# Altium schematic symbol library core.SchLib: 26 symbols
Pins are listed as number, name and electrical type; pins without a type are passive.

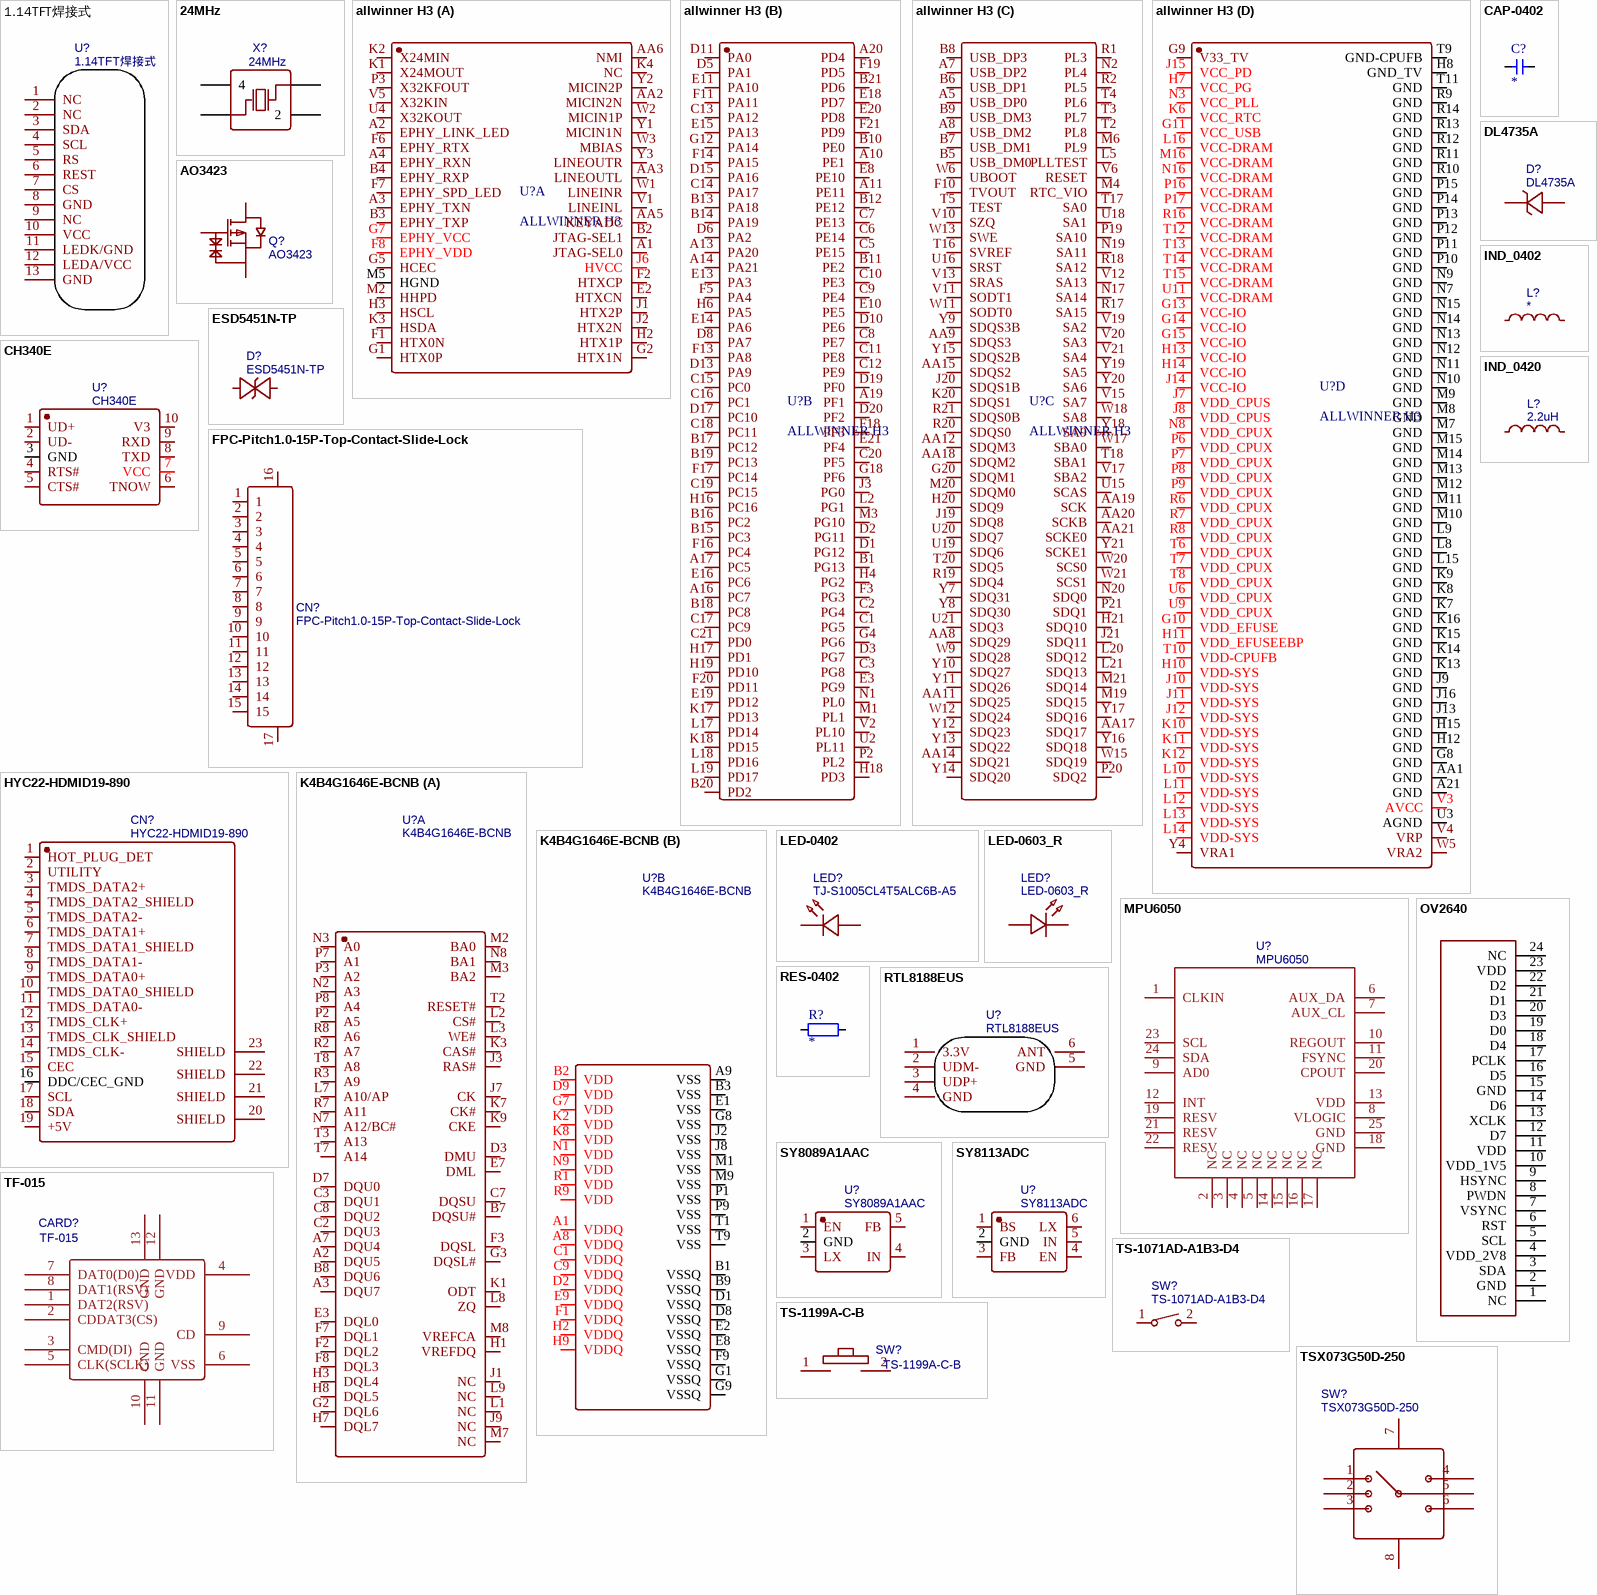
[diagram p0: symbols 1.14TFT焊接式 to TSX073G50D-250]

## 1.14TFT焊接式
designator U?
BOM_Manufacturer: 中景园; BOM_Manufacturer Part: 1.14寸LCD; Contributor: lanlanzhilian; BOM_Supplier: LCSC; BOM_Supplier Part: 1.14寸LCD; link: https://item.taobao.com/item.htm?spm=a1z09.2.0.0.71822e8drxlmEN&id=586638527978&_u=v83q7ore291; spicePre: U; spiceSymbolName: 1.14TFT焊接式
footprint 1.14TFT焊接式B
pins: 1 NC, 2 NC, 3 SDA, 4 SCL, 5 RS, 6 REST, 7 CS, 8 GND, 9 NC, 10 VCC, 11 LEDK/GND, 12 LEDA/VCC, 13 GND

## 24MHz
designator X?
BOM_Manufacturer: KDS; BOM_Manufacturer Part: DSX321G 24MHz; nameAlias: Frequency; Contributor: LCSC; BOM_Supplier: LCSC; BOM_Supplier Part: C93235; BOM_JLCPCB Part Class: Extended Part; spicePre: X; spiceSymbolName: DSX321G 24MHz
footprint OSC-SMD_4P-L3.2-W2.5-BL
pins: 1 OSC1, 2, 3 OSC2, 4

## allwinner H3
designator U?, comment ALLWINNER H3
footprint BGA-347_L14.0-W14.0-R21-C21-P0.65-TL
part A pins: A1 JTAG-SEL0, A2 EPHY_LINK_LED, A3 EPHY_TXN, A4 EPHY_RXN, AA2 MICIN2N, AA3 LINEOUTL, AA5 KEYADC, AA6 NMI, B2 JTAG-SEL1, B3 EPHY_TXP, B4 EPHY_RXP, E2 HTXCN, F1 HTX0N, F2 HTXCP, F6 EPHY_RTX, F7 EPHY_SPD_LED, F8 EPHY_VDD, G1 HTX0P, G2 HTX1N, G5 HCEC, G7 EPHY_VCC, H2 HTX1P, H3 HSCL, J1 HTX2P, J2 HTX2N, J6 HVCC, K1 X24MOUT, K2 X24MIN, K3 HSDA, K4 NC, M2 HHPD, M5 HGND, P3 X32KFOUT, U4 X32KOUT, V1 LINEINL, V5 X32KIN, W1 LINEINR, W2 MICIN1P, W3 MBIAS, Y1 MICIN1N, Y2 MICIN2P, Y3 LINEOUTR
part B pins: A10 PE1, A11 PE11, A13 PA20, A14 PA21, A16 PC7, A17 PC5, A19 PF1, A20 PD4, B1 PG13, B10 PE0, B11 PE2, B12 PE12, B13 PA18, B14 PA19, B15 PC3, B16 PC2, B17 PC12, B18 PC8, B19 PC13, B20 PD2, B21 PD6, C1 PG5, C2 PG4, C3 PG8, C5 PE15, C6 PE14, C7 PE13, C8 PE7, C9 PE4, C10 PE3, C11 PE8, C12 PE9, C13 PA12, C14 PA17, C15 PC0, C16 PC1, C17 PC9, C18 PC11, C19 PC15, C20 PF5, C21 PD0, D1 PG12, D2 PG11, D3 PG7, D5 PA1, D6 PA2, D8 PA7, D10 PE6, D11 PA0, D13 PA9, D15 PA16, D17 PC10, D19 PF0, D20 PF2, E3 PG9, E8 PE10, E10 PE5, E11 PA10, E13 PA3, E14 PA6, E15 PA13, E16 PC6, E18 PD7, E19 PD12, E20 PD8, E21 PF4, F3 PG3, F5 PA4, F11 PA11, F13 PA8, F14 PA15, F16 PC4, F17 PC14, F18 PF3, F19 PD5, F20 PD11, F21 PD9, G4 PG6, G12 PA14, G18 PF6, H4 PG2, H6 PA5, H16 PC16, H17 PD1, H18 PD3, H19 PD10, J3 PG0, K17 PD13, K18 PD15, L2 PG1, L17 PD14, L18 PD16, L19 PD17, M1 PL1, M3 PG10, N1 PL0, P2 PL2, U2 PL11, V2 PL10
part C pins: A5 USB_DP0, A7 USB_DP2, A8 USB_DM2, AA8 SDQ29, AA9 SDQS3, AA11 SDQ25, AA12 SDQM3, AA14 SDQ21, AA15 SDQS2, AA17 SDQ17, AA18 SDQM2, AA19 SCK, AA20 SCKB, AA21 SCKE0, B5 USB_DM0, B6 USB_DP1, B7 USB_DM1, B8 USB_DP3, B9 USB_DM3, F10 TVOUT, G20 SDQM1, H20 SDQ9, H21 SDQ10, J19 SDQ8, J20 SDQS1B, J21 SDQ11, K20 SDQS1, L5 PLLTEST, L20 SDQ12, L21 SDQ13, M4 RTC_VIO, M6 PL9, M19 SDQ15, M20 SDQM0, M21 SDQ14, N2 PL4, N17 SA14, N19 SA11, N20 SDQ0, P19 SA10, P20 SDQ2, P21 SDQ1, R1 PL3, R2 PL5, R17 SA15, R18 SA12, R19 SDQ4, R20 SDQS0, R21 SDQS0B, T2 PL8, T3 PL7, T4 PL6, T5 TEST, T16 SVREF, T17 SA0, T18 SBA1, T20 SDQ5, U15 SCAS, U16 SRST, U18 SA1, U19 SDQ6, U20 SDQ7, U21 SDQ3, V6 RESET, V10 SZQ, V11 SODT1, V12 SA13, V13 SRAS, V15 SA7, V17 SBA2, V19 SA2, V20 SA3, V21 SA4, W6 UBOOT, W9 SDQ28, W11 SODT0, W12 SDQ24, W13 SWE, W15 SDQ19, W17 SBA0, W18 SA8, W20 SCS0, W21 SCS1, Y7 SDQ31, Y8 SDQ30, Y9 SDQS3B, Y10 SDQ27, Y11 SDQ26, Y12 SDQ23, Y13 SDQ22, Y14 SDQ20, Y15 SDQS2B, Y16 SDQ18, Y17 SDQ16, Y18 SA9, Y19 SA5, Y20 SA6, Y21 SCKE1
part D pins: A21 GND, AA1 GND, G8 GND, G9 V33_TV, G10 VDD_EFUSE, G11 VCC_USB, G13 VCC-IO, G14 VCC-IO, G15 VCC-IO, H7 VCC_PG, H8 GND_TV, H10 VDD-SYS, H11 VDD_EFUSEEBP, H12 GND, H13 VCC-IO, H14 VCC-IO, H15 GND, J7 VDD_CPUS, J8 VDD_CPUS, J9 GND, J10 VDD-SYS, J11 VDD-SYS, J12 VDD-SYS, J13 GND, J14 VCC-IO, J15 VCC_PD, J16 GND, K6 VCC_RTC, K7 GND, K8 GND, K9 GND, K10 VDD-SYS, K11 VDD-SYS, K12 VDD-SYS, K13 GND, K14 GND, K15 GND, K16 GND, L8 GND, L9 GND, L10 VDD-SYS, L11 VDD-SYS, L12 VDD-SYS, L13 VDD-SYS, L14 VDD-SYS, L15 GND, L16 VCC-DRAM, M7 GND, M8 GND, M9 GND, M10 GND, M11 GND, M12 GND, M13 GND, M14 GND, M15 GND, M16 VCC-DRAM, N3 VCC_PLL, N7 GND, N8 VDD_CPUX, N9 GND, N10 GND, N11 GND, N12 GND, N13 GND, N14 GND, N15 GND, N16 VCC-DRAM, P6 VDD_CPUX, P7 VDD_CPUX, P8 VDD_CPUX, P9 VDD_CPUX, P10 GND, P11 GND, P12 GND, P13 GND, P14 GND, P15 GND, P16 VCC-DRAM, P17 VCC-DRAM, R6 VDD_CPUX, R7 VDD_CPUX, R8 VDD_CPUX, R9 GND, R10 GND, R11 GND, R12 GND, R13 GND, R14 GND, R16 VCC-DRAM, T6 VDD_CPUX, T7 VDD_CPUX, T8 VDD_CPUX, T9 GND-CPUFB, T10 VDD-CPUFB, T11 GND, T12 VCC-DRAM, T13 VCC-DRAM, T14 VCC-DRAM, T15 VCC-DRAM, U3 AGND, U6 VDD_CPUX, U9 VDD_CPUX, U11 VCC-DRAM, V3 AVCC, V4 VRP, W5 VRA2, Y4 VRA1

## AO3423
designator Q?
BOM_Manufacturer: AOS; BOM_Supplier: LCSC; BOM_Manufacturer Part: AO3423; BOM_Supplier Part: C73257; BOM_JLCPCB Part Class: Extended Part; spicePre: Q; spiceSymbolName: AO3423
footprint SOT-23-3_L2.9-W1.6-P1.90-LS2.8-BR
pins: 1 G, 2 S, 3 D

## CAP-0402
designator C?
Capacitor; Value: 0.1u
footprint C0402
pins: 1, 2

## CH340E
designator U?
BOM_Manufacturer: WCH; BOM_Supplier: LCSC; BOM_Manufacturer Part: CH340E; BOM_Supplier Part: C99652; BOM_JLCPCB Part Class: Extended Part; spicePre: U; spiceSymbolName: CH340E
footprint MSOP-10_L3.0-W3.0-P0.50-LS5.0-BL
pins: 1 UD+, 2 UD-, 3 GND, 4 RTS#, 5 CTS#, 6 TNOW, 7 VCC, 8 TXD, 9 RXD, 10 V3

## DL4735A
designator D?
BOM_Manufacturer: LGE; Contributor: LCSC; BOM_Supplier: LCSC; BOM_Supplier Part: C841111; BOM_Manufacturer Part: DL4735A; BOM_JLCPCB Part Class: Extended Part; spicePre: D; spiceSymbolName: DL4735A
footprint MELF_L5.0-W2.6-FD
pins: 1 K, 2 A

## ESD5451N-TP
designator D?
BOM_Manufacturer: TECH PUBLIC(台舟电子); Contributor: LCSC; BOM_Supplier: LCSC; BOM_Supplier Part: C2830311; BOM_Manufacturer Part: ESD5451N-TP; BOM_JLCPCB Part Class: Extended Part; spicePre: D; spiceSymbolName: ESD5451N-TP
footprint D0402-BI
pins: 1 K, 2 A

## FPC-Pitch1.0-15P-Top-Contact-Slide-Lock
designator CN?
BOM_Manufacturer: BOOMELE; spicePre: X; BOM_Supplier: LCSC; BOM_Manufacturer Part: FPC-Pitch1.0-15P-Top-Contact-Slide-Lock; BOM_Supplier Part: C21859; BOM_JLCPCB Part Class: Extended Part; spiceSymbolName: FPC-Pitch1.0-15P-Top-Contact-Slide-Lock
footprint FPC-SMD_15P-P1.00_BOOMELE-15P-P1.00
pins: 1, 2, 3, 4, 5, 6, 7, 8, 9, 10, 11, 12, 13, 14, 15, 16, 17

## HYC22-HDMID19-890
designator CN?
BOM_Manufacturer: HOAUC; Contributor: LCSC; BOM_Supplier: LCSC; BOM_Supplier Part: C711356; BOM_Manufacturer Part: HYC22-HDMID19-890; BOM_JLCPCB Part Class: Extended Part; spicePre: C; spiceSymbolName: HYC22-HDMID19-890
footprint HDMI-SMD_HYC22-HDMID19-890
pins: 1 HOT_PLUG_DET, 2 UTILITY, 3 TMDS_DATA2+, 4 TMDS_DATA2_SHIELD, 5 TMDS_DATA2-, 6 TMDS_DATA1+, 7 TMDS_DATA1_SHIELD, 8 TMDS_DATA1-, 9 TMDS_DATA0+, 10 TMDS_DATA0_SHIELD, 11 TMDS_DATA0-, 12 TMDS_CLK+, 13 TMDS_CLK_SHIELD, 14 TMDS_CLK-, 15 CEC, 16 DDC/CEC_GND, 17 SCL, 18 SDA, 19 +5V, 20 SHIELD, 21 SHIELD, 22 SHIELD, 23 SHIELD

## IND_0402
designator L?
nameAlias: Value(H); Contributor: LCEDA_Lib; spicePre: L; spiceSymbolName: L0402_US
footprint L0402
pins: 1, 2

## IND_0420
designator L?, comment 2.2uH
BOM_Manufacturer: TDG; BOM_Manufacturer Part: TMAX-0420-2R2-M; nameAlias: Inductance; Contributor: LCSC; BOM_Supplier: LCSC; BOM_Supplier Part: C429763; spicePre: L; spiceSymbolName: TMAX-0420-2R2-M
footprint IND-SMD_L4.4-W4.2
pins: 1, 2

## K4B4G1646E-BCNB
designator U?
BOM_Manufacturer: SAMSUNG(三星半导体); Contributor: LCSC; BOM_Supplier Part: C2803248; BOM_Manufacturer Part: K4B4G1646E-BCNB; BOM_JLCPCB Part Class: Extended Part; spicePre: U; spiceSymbolName: K4B4G1646E-BCNB; BOM_Supplier: LCSC
footprint FBGA-96_L13.5-W7.5-R16-C6-P0.80-TL
part A pins: A2 DQU5, A3 DQU7, A7 DQU4, B7 DQSU#, B8 DQU6, C2 DQU3, C3 DQU1, C7 DQSU, C8 DQU2, D3 DMU, D7 DQU0, E3 DQL0, E7 DML, F2 DQL2, F3 DQSL, F7 DQL1, F8 DQL3, G2 DQL6, G3 DQSL#, H1 VREFDQ, H3 DQL4, H7 DQL7, H8 DQL5, J1 NC, J3 RAS#, J7 CK, J9 NC, K1 ODT, K3 CAS#, K7 CK#, K9 CKE, L1 NC, L2 CS#, L3 WE#, L7 A10/AP, L8 ZQ, L9 NC, M2 BA0, M3 BA2, M7 NC, M8 VREFCA, N2 A3, N3 A0, N7 A12/BC#, N8 BA1, P2 A5, P3 A2, P7 A1, P8 A4, R2 A7, R3 A9, R7 A11, R8 A6, T2 RESET#, T3 A13, T7 A14, T8 A8
part B pins: A1 VDDQ, A8 VDDQ, A9 VSS, B1 VSSQ, B2 VDD, B3 VSS, B9 VSSQ, C1 VDDQ, C9 VDDQ, D1 VSSQ, D2 VDDQ, D8 VSSQ, D9 VDD, E1 VSS, E2 VSSQ, E8 VSSQ, E9 VDDQ, F1 VDDQ, F9 VSSQ, G1 VSSQ, G7 VDD, G8 VSS, G9 VSSQ, H2 VDDQ, H9 VDDQ, J2 VSS, J8 VSS, K2 VDD, K8 VDD, M1 VSS, M9 VSS, N1 VDD, N9 VDD, P1 VSS, P9 VSS, R1 VDD, R9 VDD, T1 VSS, T9 VSS

## LED-0402
designator LED?, comment TJ-S1005CL4T5ALC6B-A5
BOM_Manufacturer: TOGIALED; Contributor: LCSC; BOM_Supplier: LCSC; BOM_Supplier Part: C917189; BOM_Manufacturer Part: TJ-S1005CL4T5ALC6B-A5; BOM_JLCPCB Part Class: Extended Part; spicePre: L; spiceSymbolName: TJ-S1005CL4T5ALC6B-A5
footprint LED0402-RD
pins: 1 K, 2 A

## LED-0603_R
designator LED?
BOM_Manufacturer: EVERLIGHT(台湾亿光); BOM_Manufacturer Part: 19-217/R6C-AL1M2VY/3T; Contributor: LCEDA_01; BOM_Supplier Part: C72044; BOM_Supplier: LCSC; spicePre: L; spiceSymbolName: LED-0603_R
footprint LED0603_RED
pins: 1, 2

## MPU6050
designator U?
spicePre: U; spiceSymbolName: MPU6050
footprint QFN50P400X400X95-25T265X275N
pins: 1 CLKIN, 2 NC, 3 NC, 4 NC, 5 NC, 6 AUX_DA, 7 AUX_CL, 8 VLOGIC, 9 AD0, 10 REGOUT, 11 FSYNC, 12 INT, 13 VDD, 14 NC, 15 NC, 16 NC, 17 NC, 18 GND, 19 RESV, 20 CPOUT, 21 RESV, 22 RESV, 23 SCL, 24 SDA, 25 GND

## OV2640
designator J?, comment 0.5S_A_24PWB  (value not drawn)
Header, 24-Pin; LatestRevisionDate: 17-Jul-2002; LatestRevisionNote: Re-released for DXP Platform.; Publisher: Altium Limited
footprint FPC-24P
pins: 1 NC, 2 GND, 3 SDA, 4 VDD_2V8, 5 SCL, 6 RST, 7 VSYNC, 8 PWDN, 9 HSYNC, 10 VDD_1V5, 11 VDD, 12 D7, 13 XCLK, 14 D6, 15 GND, 16 D5, 17 PCLK, 18 D4, 19 D0, 20 D3, 21 D1, 22 D2, 23 VDD, 24 NC

## RES-0402
designator R?
Resistor; Value: 22R
footprint R0402
pins: 1, 2

## RTL8188EUS
designator U?
Contributor: Robin00; spicePre: U; spiceSymbolName: RTL8188EUS
footprint USB-WIFI-ANT
pins: 1 3.3V, 2 UDM-, 3 UDP+, 4 GND, 5 GND, 6 ANT

## SY8089A1AAC
designator U?
BOM_Manufacturer: Silergy Corp; Contributor: LCSC; BOM_Supplier: LCSC; BOM_Supplier Part: C479074; BOM_Manufacturer Part: SY8089A1AAC; BOM_JLCPCB Part Class: Extended Part; spicePre: U; spiceSymbolName: SY8089A1AAC
footprint SOT-23-5_L3.0-W1.7-P0.95-LS2.8-BL
pins: 1 EN, 2 GND, 3 LX, 4 IN, 5 FB

## SY8113ADC
designator U?
BOM_Manufacturer: Silergy Corp; Contributor: LCSC; BOM_Supplier: LCSC; BOM_Supplier Part: C403810; BOM_Manufacturer Part: SY8113ADC; BOM_JLCPCB Part Class: Extended Part; spicePre: U; spiceSymbolName: SY8113ADC
footprint TSOT-23-6_L2.9-W1.6-P0.95-LS2.8-BR
pins: 1 BS, 2 GND, 3 FB, 4 EN, 5 IN, 6 LX

## TF-015
designator CARD?
BOM_Manufacturer: SOFNG; BOM_Supplier: LCSC; BOM_Manufacturer Part: TF-015; BOM_Supplier Part: C113206; spicePre: C; spiceSymbolName: TF-015
footprint TF-SMD_TF-015
pins: 1 DAT2(RSV), 2 CDDAT3(CS), 3 CMD(DI), 4 VDD, 5 CLK(SCLK), 6 VSS, 7 DAT0(D0), 8 DAT1(RSV), 9 CD, 10 GND, 11 GND, 12 GND, 13 GND

## TS-1071AD-A1B3-D4
designator SW?
BOM_Manufacturer: Yuandi; Contributor: LCSC; BOM_Supplier: LCSC; BOM_Supplier Part: C492878; BOM_Manufacturer Part: TS-1071AD-A1B3-D4; BOM_JLCPCB Part Class: Extended Part; spicePre: S; spiceSymbolName: TS-1071AD-A1B3-D4
footprint ButtonTACT_3x4x2_180
pins: 1, 2

## TS-1199A-C-B
designator SW?
BOM_Manufacturer: XKB Enterprise; Contributor: LCSC; BOM_Supplier: LCSC; BOM_Supplier Part: C318880; BOM_Manufacturer Part: TS-1199A-C-B; BOM_JLCPCB Part Class: Extended Part; spicePre: S; spiceSymbolName: TS-1199A-C-B
footprint KEY-SMD_2P-L6.0-W6.0-P6.50
pins: 1, 2

## TSX073G50D-250
designator SW?
BOM_Manufacturer: BRIGHT; Contributor: LCSC; BOM_Supplier: LCSC; BOM_Supplier Part: C722953; BOM_Manufacturer Part: TSX073G50D-250; BOM_JLCPCB Part Class: Extended Part; spicePre: S; spiceSymbolName: TSX073G50D-250
footprint SW-SMD_TSX073G50D1-250
pins: 1 A, 2 CENTER, 3 B, 4 D, 5 COM, 6 C, 7 GND, 8 GND

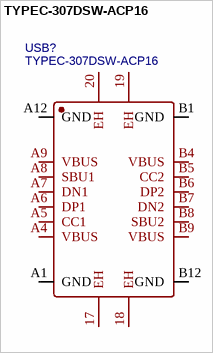
[diagram p1: symbol TYPEC-307DSW-ACP16]

## TYPEC-307DSW-ACP16
designator USB?
BOM_Manufacturer: XUNPU(讯普); Contributor: LCSC; BOM_Supplier: LCSC; BOM_Supplier Part: C2840402; BOM_Manufacturer Part: TYPEC-307DSW-ACP16; spicePre: U; spiceSymbolName: TYPEC-307DSW-ACP16
footprint USB-C-SMD_TYPEC-307DSW-ACP16
pins: 17 EH, 18 EH, 19 EH, 20 EH, A1 GND, A4 VBUS, A5 CC1, A6 DP1, A7 DN1, A8 SBU1, A9 VBUS, A12 GND, B1 GND, B4 VBUS, B5 CC2, B6 DP2, B7 DN2, B8 SBU2, B9 VBUS, B12 GND